# EAGLE library part PDM_2019_REVB_LT6100HMS8PBF (library PDM_2019_RevB)
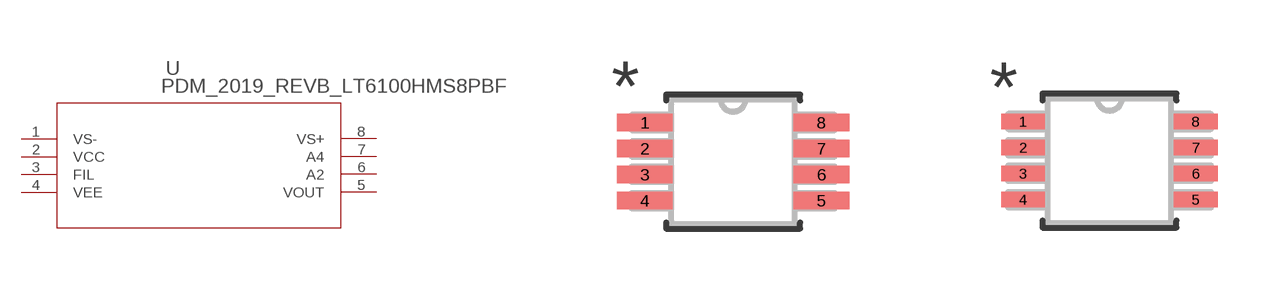
[diagram p0: symbol with the pads of PDM_2019_REVB_MSOP-8_MS; footprints PDM_2019_REVB_MSOP-8_MS, PDM_2019_REVB_MSOP-8_MS-L]

Designator prefix U

## PDM_2019_REVB_LT6100HMS8PBF (MANUFACTURER_PART_NUMBER: LT6100HMS8#PBF; VENDOR: Linear Technology)  [PDM_2019_REVB_MSOP-8_MS]
1  VS-  pwr
2  VCC  pwr
3  FIL  pas
4  VEE  pwr
5  VOUT  out
6  A2  pas
7  A4  pas
8  VS+  pwr

## PDM_2019_REVB_LT6100HMS8PBFMSOP-8_MS-L (MANUFACTURER_PART_NUMBER: LT6100HMS8#PBF; VENDOR: Linear Technology)  [PDM_2019_REVB_MSOP-8_MS-L]
Pads as for PDM_2019_REVB_MSOP-8_MS

## PDM_2019_REVB_LT6100HMS8PBFMSOP-8_MS-M (MANUFACTURER_PART_NUMBER: LT6100HMS8#PBF; VENDOR: Linear Technology)  [PDM_2019_REVB_MSOP-8_MS-M]
Pads as for PDM_2019_REVB_MSOP-8_MS

## Footprint PDM_2019_REVB_MSOP-8_MS (pad centres in mm)
smd 1.397 x 0.432: 1 -2.21,0.975; 2 -2.21,0.325; 3 -2.21,-0.325; 4 -2.21,-0.975; 5 2.21,-0.975; 6 2.21,-0.325; 7 2.21,0.325; 8 2.21,0.975

## Footprint PDM_2019_REVB_MSOP-8_MS-L (pad centres in mm)
smd 1.092 x 0.381: 1 -2.159,0.975; 2 -2.159,0.325; 3 -2.159,-0.325; 4 -2.159,-0.975; 5 2.159,-0.975; 6 2.159,-0.325; 7 2.159,0.325; 8 2.159,0.975

## Footprint PDM_2019_REVB_MSOP-8_MS-M (pad centres in mm)
smd 1.702 x 0.483: 1 -2.261,0.975; 2 -2.261,0.325; 3 -2.261,-0.325; 4 -2.261,-0.975; 5 2.261,-0.975; 6 2.261,-0.325; 7 2.261,0.325; 8 2.261,0.975